# Altium schematic symbol library AMC6821.SchLib: 1 symbol
Pins are listed as number, name and electrical type; pins without a type are passive.

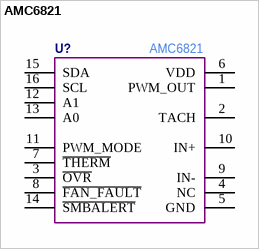
[diagram p0: symbol AMC6821]

## AMC6821
designator U?  Manufacturer Part Number: AMC6821  (hidden comment: *)
pins: 1 PWM_OUT, 2 TACH, 3 ~{OVR}, 4 NC, 5 GND, 6 VDD, 7 ~{THERM}, 8 ~{FAN_FAULT}, 9 IN-, 10 IN+, 11 PWM_MODE, 12 A1, 13 A0, 14 ~{SMBALERT}, 15 SDA, 16 SCL